# Altium schematic symbol library Midas.SchLib: 2 symbols
Pins are listed as number, name and electrical type; pins without a type are passive.

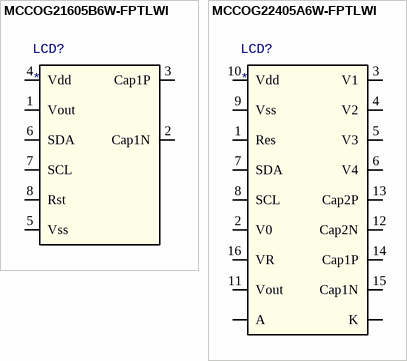
[diagram p0: symbols MCCOG21605B6W-FPTLWI to MCCOG22405A6W-FPTLWI]

## MCCOG21605B6W-FPTLWI
designator LCD?
Alphanumeric LCD, 20x2; Manufacturer Part Number 1: MCCOG22005B6W-FPTLWI; Manufacturer 1: MIDAS; Value: *
footprint MCCOG22005AW-FPTLWI (Alphanumeric LCD, 20x2)
pins: 1 Vout, 2 Cap1N, 3 Cap1P, 4 Vdd (power), 5 Vss (power), 6 SDA, 7 SCL, 8 Rst

## MCCOG22405A6W-FPTLWI
designator LCD?
Alphanumeric LCD, 24x2; Manufacturer Part Number 1: MCCOG22405A6W-FPTLWI; Manufacturer 1: MIDAS; Value: *
footprint MCCOG22405A6W-FPTLWI (Alphanumeric LCD, 24x2)
pins: 1 Res, 2 V0, 3 V1, 4 V2, 5 V3, 6 V4, 7 SDA, 8 SCL, 9 Vss (power), 10 Vdd (power), 11 Vout, 12 Cap2N, 13 Cap2P, 14 Cap1P, 15 Cap1N, 16 VR, A, K